# Altium footprint library ZPWL.PcbLib: 168 footprints (part 3 of 11)
Each footprint in its own frame and in the unit in brackets; x right, y up, seen from the top. Pads: shape width x height; smd on the part's side, far side on the other; paste and mask are expansions set on the pad; w line width, h text height; cw(c..) or ccw(c..) is an arc to the next point about the centre after c.
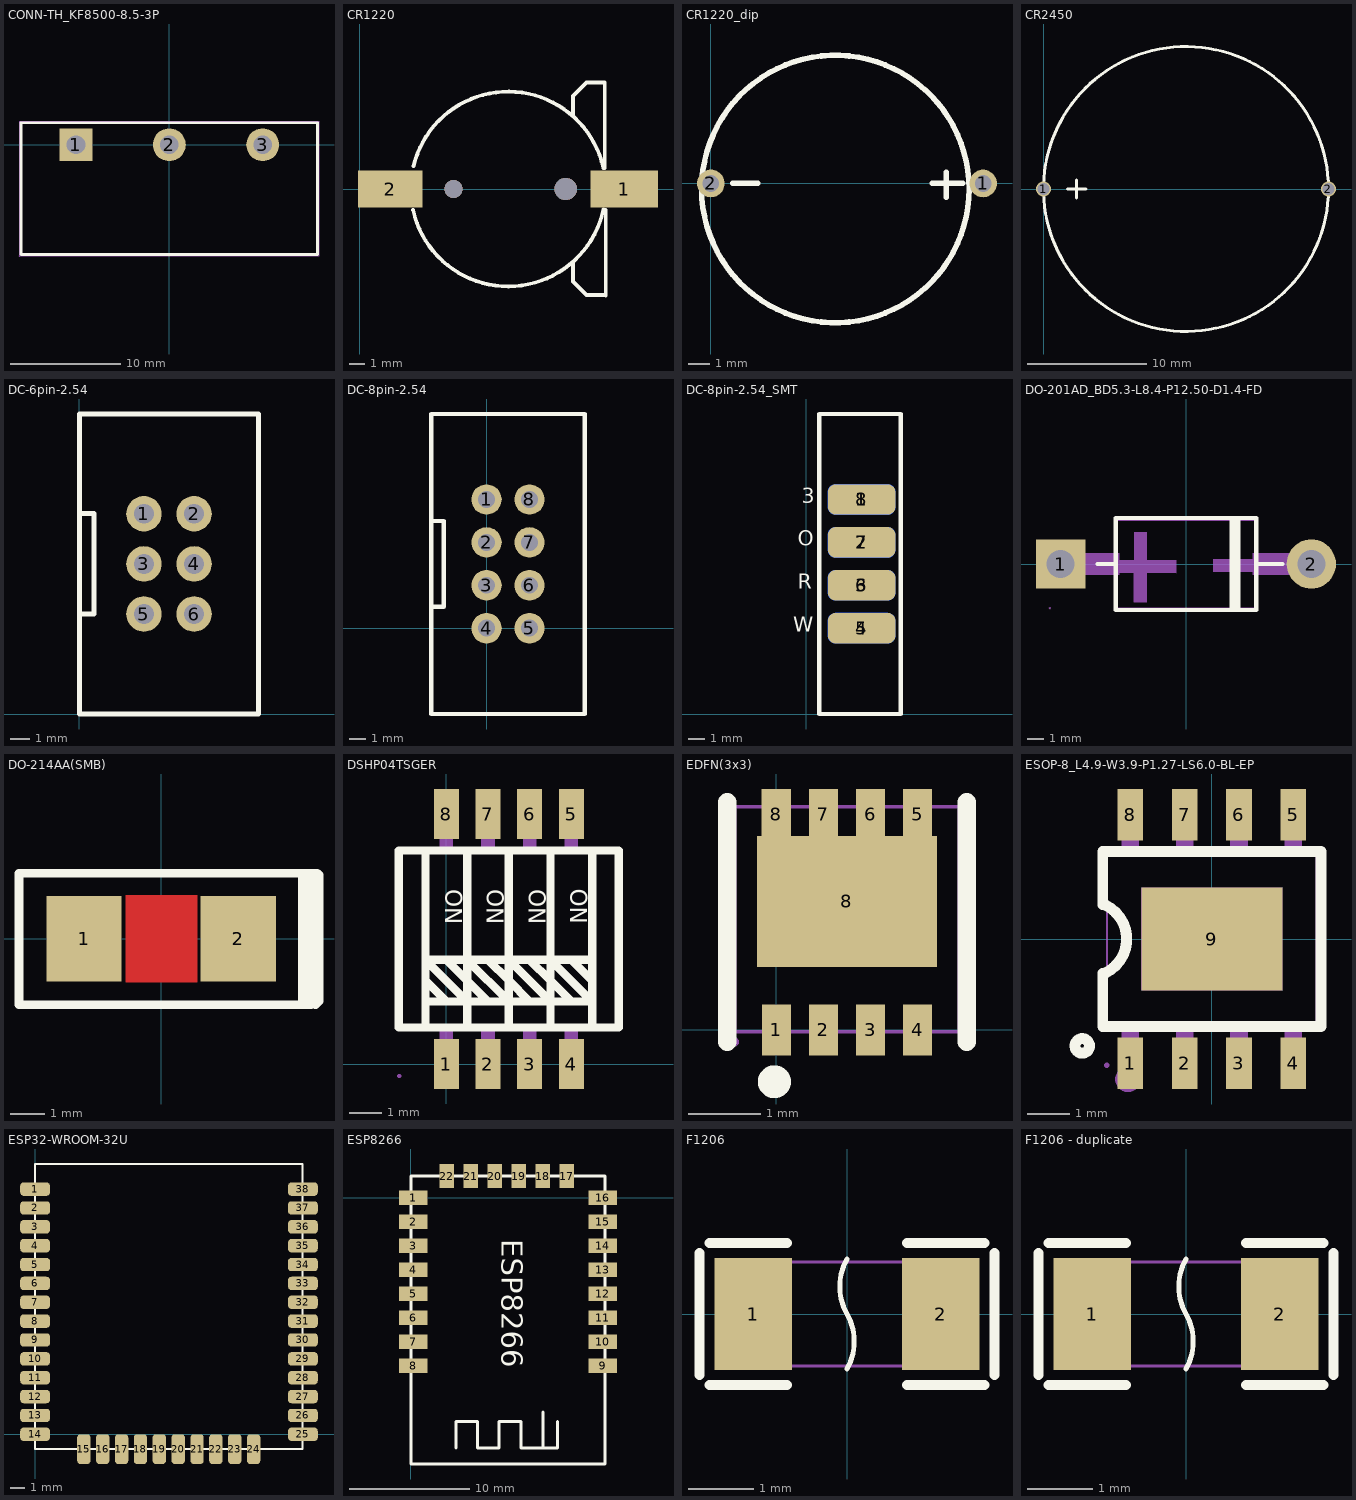
[diagram p2: the footprints below, top view; thin cyan lines are the x and y axes]

## CONN-TH_KF8500-8.5-3P [mm]
pads (3):
  rect 3x3 hole 1.7: 1(-8.5,0)
  round 3 hole 1.7: 2(0,0) 3(8.5,0)
Top Overlay:
  lines w0.254: -13.5,-10 13.5,-10 13.5,2 -13.5,2 -13.5,-10
Mechanical 15:
  region: -13.567,-10.127 -13.567,-10.102 -13.602,-10.067 -13.652,-10.067 -13.687,-10.102 -13.687,-10.127 -13.687,-10.152 -13.652,-10.187 -13.602,-10.187 -13.567,-10.152 -13.567,-10.127
  region: -7.75,0 -7.75,0.099 -7.801,0.289 -7.9,0.461 -8.039,0.6 -8.211,0.699 -8.401,0.75 -8.599,0.75 -8.79,0.699 -8.961,0.6 -9.1,0.461 -9.199,0.289 -9.25,0.099 -9.25,0 -9.25,-0.099 -9.199,-0.289 -9.1,-0.461 -8.961,-0.6 -8.79,-0.699 -8.599,-0.75 -8.401,-0.75 -8.211,-0.699 -8.039,-0.6 -7.9,-0.461 -7.801,-0.289 -7.75,-0.099 -7.75,0
  region: 0.75,0 0.75,0.099 0.699,0.289 0.6,0.461 0.461,0.6 0.29,0.699 0.099,0.75 -0.099,0.75 -0.289,0.699 -0.46,0.6 -0.6,0.461 -0.699,0.289 -0.75,0.099 -0.75,0 -0.75,-0.099 -0.699,-0.289 -0.6,-0.461 -0.46,-0.6 -0.289,-0.699 -0.099,-0.75 0.099,-0.75 0.29,-0.699 0.461,-0.6 0.6,-0.461 0.699,-0.289 0.75,-0.099 0.75,0
  region: 9.25,0 9.25,0.099 9.199,0.289 9.1,0.461 8.96,0.6 8.789,0.699 8.599,0.75 8.401,0.75 8.21,0.699 8.039,0.6 7.9,0.461 7.801,0.289 7.75,0.099 7.75,0 7.75,-0.099 7.801,-0.289 7.9,-0.461 8.039,-0.6 8.21,-0.699 8.401,-0.75 8.599,-0.75 8.789,-0.699 8.96,-0.6 9.1,-0.461 9.199,-0.289 9.25,-0.099 9.25,0
  lines w0.051: -13.627,-10.127 -13.627,2.127 13.627,2.127 13.627,-10.127 -13.627,-10.127

## CR1220 [mm]
pads (2):
  rect 4.5x2.5 smd: 1(17.653,0)
  rect 4.3x2.5 smd: 2(2.032,0)
via 13.75,0 diameter 1.5 hole 1.5
via 6.25,0 diameter 1.2 hole 1.2
Top Overlay:
  lines w0.254: 3.561,-1.412 ccw(c9.906,0) 16.258,-1.377 ; 3.589,1.53 cw(c9.906,0) 16.251,1.412 ; 14.224,-4.953 14.224,-6.178 15.125,-7.079 16.371,-7.079 ; 14.224,4.953 14.224,6.199 15.125,7.1 16.35,7.1 16.35,1.412 ; 16.416,-7.1 16.416,-1.412

## CR1220_dip [mil]
pads (2):
  round 50 hole 30: 1(492.13,0) 2(0,0)
Top Overlay:
  circle w10: c225,-10 r241.66
  lines w10: 40,0 85,0 ; 400,0 455,0 ; 425,-25 425,20

## CR2450 [mil] "直插纽扣电池封装"
pads (2):
  round 50 hole 40: 1(0,0) 2(944.88,0)
Top Overlay:
  circle w10: c472.44,0 r472.44
  lines w10: 80,0 140,0 ; 110,-30 110,30

## DC-6pin-2.54 [mm]
pads (6):
  round 1.8 hole 1: 1(3.28,10.15) 2(5.82,10.15) 3(3.28,7.61) 4(5.82,7.61) 5(3.28,5.07) 6(5.82,5.07)
Top Overlay:
  lines w0.254: 0,5.075 0.74,5.075 0.74,10.155 0,10.155 ; 3.28,0 4.55,0 ; 0,0 0,15.21 9.1,15.21 9.1,0 0,0

## DC-8pin-2.54 [mm]
pads (8):
  round 1.8 hole 1: 1(0,7.62) 2(0,5.08) 3(0,2.54) 4(0,0) 5(2.54,0) 6(2.54,2.54) 7(2.54,5.08) 8(2.54,7.62)
Top Overlay:
  lines w0.254: -3.28,1.27 -2.54,1.27 -2.54,6.35 -3.28,6.35 ; -3.28,-5.08 5.82,-5.08 5.82,12.68 -3.28,12.68 -3.28,-5.08

## DC-8pin-2.54_SMT [mm]
pads (8):
  rrect50% 4x1.8 smd: 1(3.28,12.7) 2(3.28,10.16) 3(3.28,7.62) 4(3.28,5.08)
  rrect50% 4x1.8 smd far side: 5(3.28,5.08) 6(3.28,7.62) 7(3.28,10.16) 8(3.28,12.7)
Top Overlay:
  lines w0.254: 0.762,0 5.588,0 5.588,17.76 0.762,17.76 0.762,0
  text "3" at -0.254,12.192 h1.52
  text "O" at -0.508,9.652 h1.52
  text "R" at -0.508,7.112 h1.52
  text "W" at -0.762,4.572 h1.52
Bottom Overlay:
  text "G" at -0.508,12.192 h1.52
  text "C" at -0.508,9.652 h1.52
  text "T" at -0.508,7.112 h1.52
  text "S" at -0.508,4.572 h1.52

## DO-201AD_BD5.3-L8.4-P12.50-D1.4-FD [mm]
pads (2):
  rect 3x3 hole 1.7: 1(-7.62,0)
  round 3 hole 1.7: 2(7.62,0)
Top Overlay:
  lines w0.254: -5.388,0 -4.288,0 ; -4.268,-2.8 -4.268,2.8 ; -4.228,-2.8 4.272,-2.8 4.272,2.8 -4.228,2.8 ; 2.772,-2.8 2.772,2.8 ; 2.972,-2.8 2.972,2.8 ; 3.172,-2.8 3.172,2.8 ; 4.272,0 5.872,0
Mechanical 6:
  region: 5.912,-0.498 5.912,0.282 5.892,0.302 1.692,0.302 1.672,0.282 1.672,-0.458 1.692,-0.478 2.112,-0.478
  region: -0.588,-0.558 -0.588,0.222 -0.608,0.242 -4.808,0.242 -4.828,0.222 -4.828,-0.518 -4.808,-0.538 -4.388,-0.538
  region: -3.178,-2.312 -2.398,-2.312 -2.378,-2.292 -2.378,1.908 -2.398,1.928 -3.138,1.928 -3.158,1.908 -3.158,1.488
Mechanical 15:
  region: 4.073,-0.658 4.073,0.642 8.273,0.642 8.273,-0.658
  region: -8.268,-0.645 -8.268,0.655 -4.068,0.655 -4.068,-0.645
  region: -6.97,0 -6.97,0.086 -7.014,0.251 -7.1,0.399 -7.221,0.52 -7.369,0.606 -7.534,0.65 -7.706,0.65 -7.871,0.606 -8.019,0.52 -8.14,0.399 -8.226,0.251 -8.27,0.086 -8.27,0 -8.27,-0.086 -8.226,-0.251 -8.14,-0.399 -8.019,-0.52 -7.871,-0.606 -7.706,-0.65 -7.534,-0.65 -7.369,-0.606 -7.221,-0.52 -7.1,-0.399 -7.014,-0.251 -6.97,-0.086 -6.97,0
  region: 8.27,0 8.27,0.086 8.226,0.251 8.14,0.399 8.019,0.52 7.871,0.606 7.706,0.65 7.534,0.65 7.369,0.606 7.221,0.52 7.1,0.399 7.014,0.251 6.97,0.086 6.97,0 6.97,-0.086 7.014,-0.251 7.1,-0.399 7.221,-0.52 7.369,-0.606 7.534,-0.65 7.706,-0.65 7.871,-0.606 8.019,-0.52 8.14,-0.399 8.226,-0.251 8.27,-0.086 8.27,0
  region: -8.21,-2.68 -8.21,-2.655 -8.245,-2.62 -8.295,-2.62 -8.33,-2.655 -8.33,-2.68 -8.33,-2.705 -8.295,-2.74 -8.245,-2.74 -8.21,-2.705 -8.21,-2.68
  lines w0.051: -4.2,-2.65 4.2,-2.65 4.2,2.65 -4.2,2.65 -4.2,-2.65

## DO-214AA(SMB) [mm]
pads (2):
  rect 2.2x2.5 smd: 1(-2.25,0) 2(2.25,0)
Top Layer:
  pour cut-out: -1.031,1.27 -1.031,-1.27 1.052,-1.27 1.052,1.27
Top Overlay:
  lines w0.254: 4.511,-1.93 4.612,-1.829 4.612,1.854 4.561,1.905 4.333,1.905 ; 4.13,-1.93 4.384,-1.93 4.384,1.854 4.333,1.905 ; 4.13,-1.93 -4.151,-1.93 -4.151,-1.905 -4.151,1.905 4.13,1.905 ; 4.13,-1.93 4.13,-1.676 4.13,1.905 ; 4.13,1.905 4.333,1.905
3D body "DO-214AA.STEP": height 2.5, standoff 0, extent -2.851,-1.925 2.749,1.975

## DSHP04TSGER [mil] "贴片拨码"
pads (8):
  rect 30x60 smd: 1(0,0) 2(50,0) 3(100,0) 4(150,0) 5(150,300) 6(100,300) 7(50,300) 8(0,300)
Top Overlay:
  lines w10: -25,50 -25,250 ; -25,75 25,75 ; -25,100 0,75 ; 0,125 25,100 50,75 ; 50,125 75,100 100,75 ; 100,125 125,100 150,75 ; 150,125 175,100 ; 175,50 175,250 ; 175,125 125,125 ; 25,50 25,250 ; 25,50 25,250 ; 25,50 25,250 ; 25,50 25,250 ; 25,75 -25,125 25,125 ; 25,75 75,75 ; 25,125 75,75 ; 25,125 75,125 ; 75,50 75,250 ; 75,50 75,250 ; 75,50 75,250 ; 75,75 125,75 ; 75,125 125,125 ; 75,125 125,75 ; 125,75 175,75 125,125 ; -56.88,43.7 -56.88,256.3 206.89,256.3 206.89,43.7 -56.88,43.7 ; 125,50 125,250 125,50
  text "ON" at 148.65,210 h20
  text "ON" at 98.65,210 h20
  text "ON" at 48.66,210 h20
  text "ON" at -1.35,210 h20
Mechanical 6:
  region: -5.62,4.98 -5.58,7.41 -1.25,7.41 -1.25,28.84 -2.01,29.59 -4.95,29.39 -1.76,32.59 1.19,32.54 1.19,7.45 5.79,7.37 5.82,5
  region: 44.3,27.8 44.3,29.03 45.25,31.31 46.99,33.06 49.27,34 50.5,34 52.5,34 53.68,34 55.85,33.1 57.51,31.44 58.4,29.27 58.4,28.1 58.4,26.8 48.2,9.6 60.45,9.68 60.55,6.48 43.8,6.48 43.75,9.58 55.55,27.08 55.53,27.54 55.35,28.44 55,29.3 54.49,30.06 54.17,30.41 54.15,30.43 54.09,30.48 53.95,30.58 53.8,30.64 53.63,30.67 53.55,30.68 48.55,30.68 48.22,30.64 47.61,30.39 47.14,29.92 46.89,29.31 46.85,28.98 46.85,28.13
Mechanical 15:
  region: -54.13,-14.37 -54.13,-13.39 -55.51,-12.01 -57.47,-12.01 -58.85,-13.39 -58.85,-14.37 -58.85,-15.35 -57.47,-16.73 -55.51,-16.73 -54.13,-15.35
  region: 157.88,282.09 157.88,255.91 142.13,255.91 142.13,282.09
  region: 157.88,314.37 157.88,281.69 142.13,281.69 142.13,314.37
  region: 157.88,44.09 157.88,17.91 142.13,17.91 142.13,44.09
  region: 157.88,18.31 157.88,-14.37 142.13,-14.37 142.13,18.31
  region: 7.88,44.09 7.88,17.91 -7.87,17.91 -7.87,44.09
  region: 7.88,18.31 7.88,-14.37 -7.87,-14.37 -7.87,18.31
  region: 7.88,282.09 7.88,255.91 -7.87,255.91 -7.87,282.09
  region: 7.88,314.37 7.88,281.69 -7.87,281.69 -7.87,314.37
  region: 57.88,282.09 57.88,255.91 42.13,255.91 42.13,282.09
  region: 57.88,314.37 57.88,281.69 42.13,281.69 42.13,314.37
  region: 57.88,44.09 57.88,17.91 42.13,17.91 42.13,44.09
  region: 57.88,18.31 57.88,-14.37 42.13,-14.37 42.13,18.31
  region: 107.88,44.09 107.88,17.91 92.13,17.91 92.13,44.09
  region: 107.88,18.31 107.88,-14.37 92.13,-14.37 92.13,18.31
  region: 107.88,282.09 107.88,255.91 92.13,255.91 92.13,282.09
  region: 107.88,314.37 107.88,281.69 92.13,281.69 92.13,314.37
  lines w2: -56.49,43.7 206.5,43.7 206.5,256.3 -56.49,256.3 -56.49,43.7
3D body "DSHP04TSGER.STEP": height 92.52, standoff 0, extent -55.66,-22.01 207.33,320.51

## EDFN(3x3) [mm] "EDFN(3x3)"
pads (9):
  rect 0.4x0.7 smd mask+0.05: 1(0,0) 2(0.65,0) 3(1.3,0) 4(1.95,0) 5(1.95,2.97) 6(1.3,2.97) 7(0.65,2.97) 8(0,2.97)
  rect 2.48x1.8 smd mask+0.05: 8(0.975,1.77)
Top Overlay:
  circle w0.254: c-0.025,-0.715 r0.1
  lines w0.254: -0.675,-0.165 -0.675,3.135 ; 2.625,-0.165 2.625,3.135
Top Paste:
  region: 0.85,-0.35 0.85,0.35 0.45,0.35 0.45,-0.35
  region: 1.5,-0.35 1.5,0.35 1.1,0.35 1.1,-0.35
  region: -0.2,0.35 -0.2,-0.35 0.2,-0.35 0.2,0.35
  region: 2.15,-0.35 2.15,0.35 1.75,0.35 1.75,-0.35
  region: 1.1,3.32 1.1,2.67 0.85,2.67 0.85,3.32 0.45,3.32 0.45,2.67 0.2,2.67 0.2,3.32 -0.2,3.32 -0.2,2.67 -0.265,2.67 -0.265,0.87 2.215,0.87 2.215,2.67 2.15,2.67 2.15,3.32 1.75,3.32 1.75,2.67 1.5,2.67 1.5,3.32
Mechanical 15:
  region: 0.147,0.235 0.147,-0.165 -0.148,-0.165 -0.148,0.235
  region: 0.797,0.235 0.797,-0.165 0.502,-0.165 0.502,0.235
  region: 1.447,0.235 1.447,-0.165 1.152,-0.165 1.152,0.235
  region: 2.097,0.235 2.097,-0.165 1.802,-0.165 1.802,0.235
  region: -0.265,0.87 -0.265,2.67 2.215,2.67 2.215,0.87
  region: 2.115,3.135 2.115,2.735 1.815,2.735 1.815,3.135
  region: 1.455,3.135 1.455,2.735 1.155,2.735 1.155,3.135
  region: 0.795,3.135 0.795,2.735 0.495,2.735 0.495,3.135
  region: 0.135,3.135 0.135,2.735 -0.165,2.735 -0.165,3.135
  region: -0.515,-0.165 -0.515,-0.14 -0.55,-0.105 -0.6,-0.105 -0.635,-0.14 -0.635,-0.165 -0.635,-0.19 -0.6,-0.225 -0.55,-0.225 -0.515,-0.19
  lines w0.051: -0.575,-0.025 2.525,-0.025 2.525,3.075 -0.575,3.075 -0.575,-0.025

## ESOP-8_L4.9-W3.9-P1.27-LS6.0-BL-EP [mm]
pads (9):
  rect 0.6x1.2 smd: 1(-1.905,-2.908) 2(-0.635,-2.908) 3(0.635,-2.908) 4(1.905,-2.908) 5(1.905,2.908) 6(0.635,2.908) 7(-0.635,2.908) 8(-1.905,2.908)
  rect 3.3x2.4 smd: 9(0,0)
Top Overlay:
  circle w0.254: c-3.03,-2.5 r0.17
  lines w0.254: -2.55,-0.8 -2.55,-2.05 2.55,-2.05 2.55,2.05 -2.55,2.05 -2.55,0.8 ; -2.5,-0.8 ccw(c-2.875,0) -2.5,0.8
Mechanical 6:
  circle w0.3: c-1.96,-3.28 r0.15
Mechanical 15:
  region: 1.65,-1.2 -1.65,-1.2 -1.65,1.2 1.65,1.2
  region: 1.705,-2.95 1.705,-2.3 2.105,-2.3 2.105,-2.95
  region: 1.705,-2.31 1.705,-1.94 2.105,-1.94 2.105,-2.31
  region: 0.435,-2.95 0.435,-2.3 0.835,-2.3 0.835,-2.95
  region: 0.435,-2.31 0.435,-1.94 0.835,-1.94 0.835,-2.31
  region: -0.835,-2.95 -0.835,-2.3 -0.435,-2.3 -0.435,-2.95
  region: -0.835,-2.31 -0.835,-1.94 -0.435,-1.94 -0.435,-2.31
  region: -2.105,-2.95 -2.105,-2.3 -1.705,-2.3 -1.705,-2.95
  region: -2.105,-2.31 -2.105,-1.94 -1.705,-1.94 -1.705,-2.31
  region: 1.705,2.3 1.705,2.95 2.105,2.95 2.105,2.3
  region: 1.705,1.94 1.705,2.31 2.105,2.31 2.105,1.94
  region: 0.435,2.3 0.435,2.95 0.835,2.95 0.835,2.3
  region: 0.435,1.94 0.435,2.31 0.835,2.31 0.835,1.94
  region: -0.835,2.3 -0.835,2.95 -0.435,2.95 -0.435,2.3
  region: -0.835,1.94 -0.835,2.31 -0.435,2.31 -0.435,1.94
  region: -2.105,2.3 -2.105,2.95 -1.705,2.95 -1.705,2.3
  region: -2.105,1.94 -2.105,2.31 -1.705,2.31 -1.705,1.94
  region: -2.394,-2.95 -2.395,-2.925 -2.43,-2.891 -2.479,-2.891 -2.514,-2.926 -2.514,-2.95 -2.514,-2.974 -2.479,-3.009 -2.43,-3.009 -2.395,-2.974 -2.394,-2.95
  lines w0.051: -2.45,-1.95 -2.45,1.95 2.45,1.95 2.45,-1.95 -2.45,-1.95

## ESP32-WROOM-32U [mm]
pads (38):
  rrect50% 2x0.9 smd: 1(0,16.51) 2(0,15.24) 3(0,13.97) 4(0,12.7) 5(0,11.43) 6(0,10.16) 7(0,8.89) 8(0,7.62) 9(0,6.35) 10(0,5.08) 11(0,3.81) 12(0,2.54) 13(0,1.27) 14(0,0) 25(18.034,0) 26(18.034,1.27) 27(18.034,2.54) 28(18.034,3.81) 29(18.034,5.08) 30(18.034,6.35) 31(18.034,7.62) 32(18.034,8.89) 33(18.034,10.16) 34(18.034,11.43) 35(18.034,12.7) 36(18.034,13.97) 37(18.034,15.24) 38(18.034,16.51)
  rrect50% 0.9x2 smd: 15(3.285,-1) 16(4.555,-1) 17(5.825,-1) 18(7.095,-1) 19(8.365,-1) 20(9.635,-1) 21(10.905,-1) 22(12.175,-1) 23(13.445,-1) 24(14.715,-1)
Top Layer:
  lines w0.127: 8.365,-1 9.635,-1
Top Overlay:
  lines w0.127: 0,-1 0,18.2 18,18.2 18,-1 0,-1

## ESP8266 [mm]
pads (22):
  rect 2.4x1.2 smd: 1(0.2,0) 2(0.2,-2) 3(0.2,-4) 4(0.2,-6) 5(0.2,-8) 6(0.2,-10) 7(0.2,-12) 8(0.2,-14) 9(16,-14) 10(16,-12) 11(16,-10) 12(16,-8) 13(16,-6) 14(16,-4) 15(16,-2) 16(16,0)
  rect 1.2x2 smd: 17(13,1.8) 18(11,1.8) 19(9,1.8) 20(7,1.8) 21(5,1.8) 22(3,1.8)
Top Overlay:
  lines w0.254: 3.759,-20.853 3.759,-18.669 5.563,-18.669 5.563,-20.853 7.366,-20.853 7.366,-18.669 9.169,-18.669 9.169,-20.853 12.243,-20.853 12.243,-18.669 ; 11.024,-20.777 11.024,-17.856 ; 0,-22.2 0,1.8 16.2,1.8 16.2,-22.2 0,-22.2
  text "ESP8266" at 6.985,-3.48 h3

## F1206 [mm]
pads (2):
  rect 1.19x1.728 smd: 1(-1.445,0) 2(1.445,0)
Top Overlay:
  lines w0.076: 0,-0.845 ccw(c-0.732,-0.422) 0,0 cw(c0.732,0.422) 0,0.845
  lines w0.152: -2.269,-0.94 -2.269,0.94 ; -2.116,-1.093 -0.926,-1.093 ; -2.116,1.093 -0.926,1.093 ; 0.926,-1.093 2.116,-1.093 ; 0.926,1.093 2.116,1.093 ; 2.269,-0.94 2.269,0.94
Mechanical 15:
  region: 1.1,-0.8 1.6,-0.8 1.6,0.8 1.1,0.8
  region: -1.6,-0.8 -1.1,-0.8 -1.1,0.8 -1.6,0.8
  region: -1.54,-0.8 -1.54,-0.775 -1.575,-0.74 -1.625,-0.74 -1.66,-0.775 -1.66,-0.8 -1.66,-0.825 -1.625,-0.86 -1.575,-0.86 -1.54,-0.825 -1.54,-0.8
  lines w0.051: -1.6,-0.8 -1.6,0.8 1.6,0.8 1.6,-0.8 -1.6,-0.8

## F1206 - duplicate [mm]
pads (2):
  rect 1.19x1.728 smd: 1(-1.445,0) 2(1.445,0)
Top Overlay:
  lines w0.076: 0,-0.845 ccw(c-0.732,-0.422) 0,0 cw(c0.732,0.422) 0,0.845
  lines w0.152: -2.269,-0.94 -2.269,0.94 ; -2.116,-1.093 -0.926,-1.093 ; -2.116,1.093 -0.926,1.093 ; 0.926,-1.093 2.116,-1.093 ; 0.926,1.093 2.116,1.093 ; 2.269,-0.94 2.269,0.94
Mechanical 15:
  region: 1.1,-0.8 1.6,-0.8 1.6,0.8 1.1,0.8
  region: -1.6,-0.8 -1.1,-0.8 -1.1,0.8 -1.6,0.8
  region: -1.54,-0.8 -1.54,-0.775 -1.575,-0.74 -1.625,-0.74 -1.66,-0.775 -1.66,-0.8 -1.66,-0.825 -1.625,-0.86 -1.575,-0.86 -1.54,-0.825 -1.54,-0.8
  lines w0.051: -1.6,-0.8 -1.6,0.8 1.6,0.8 1.6,-0.8 -1.6,-0.8